# Altium integrated library NSC Switcher.IntLib: 889 symbols (part 9 of 23)
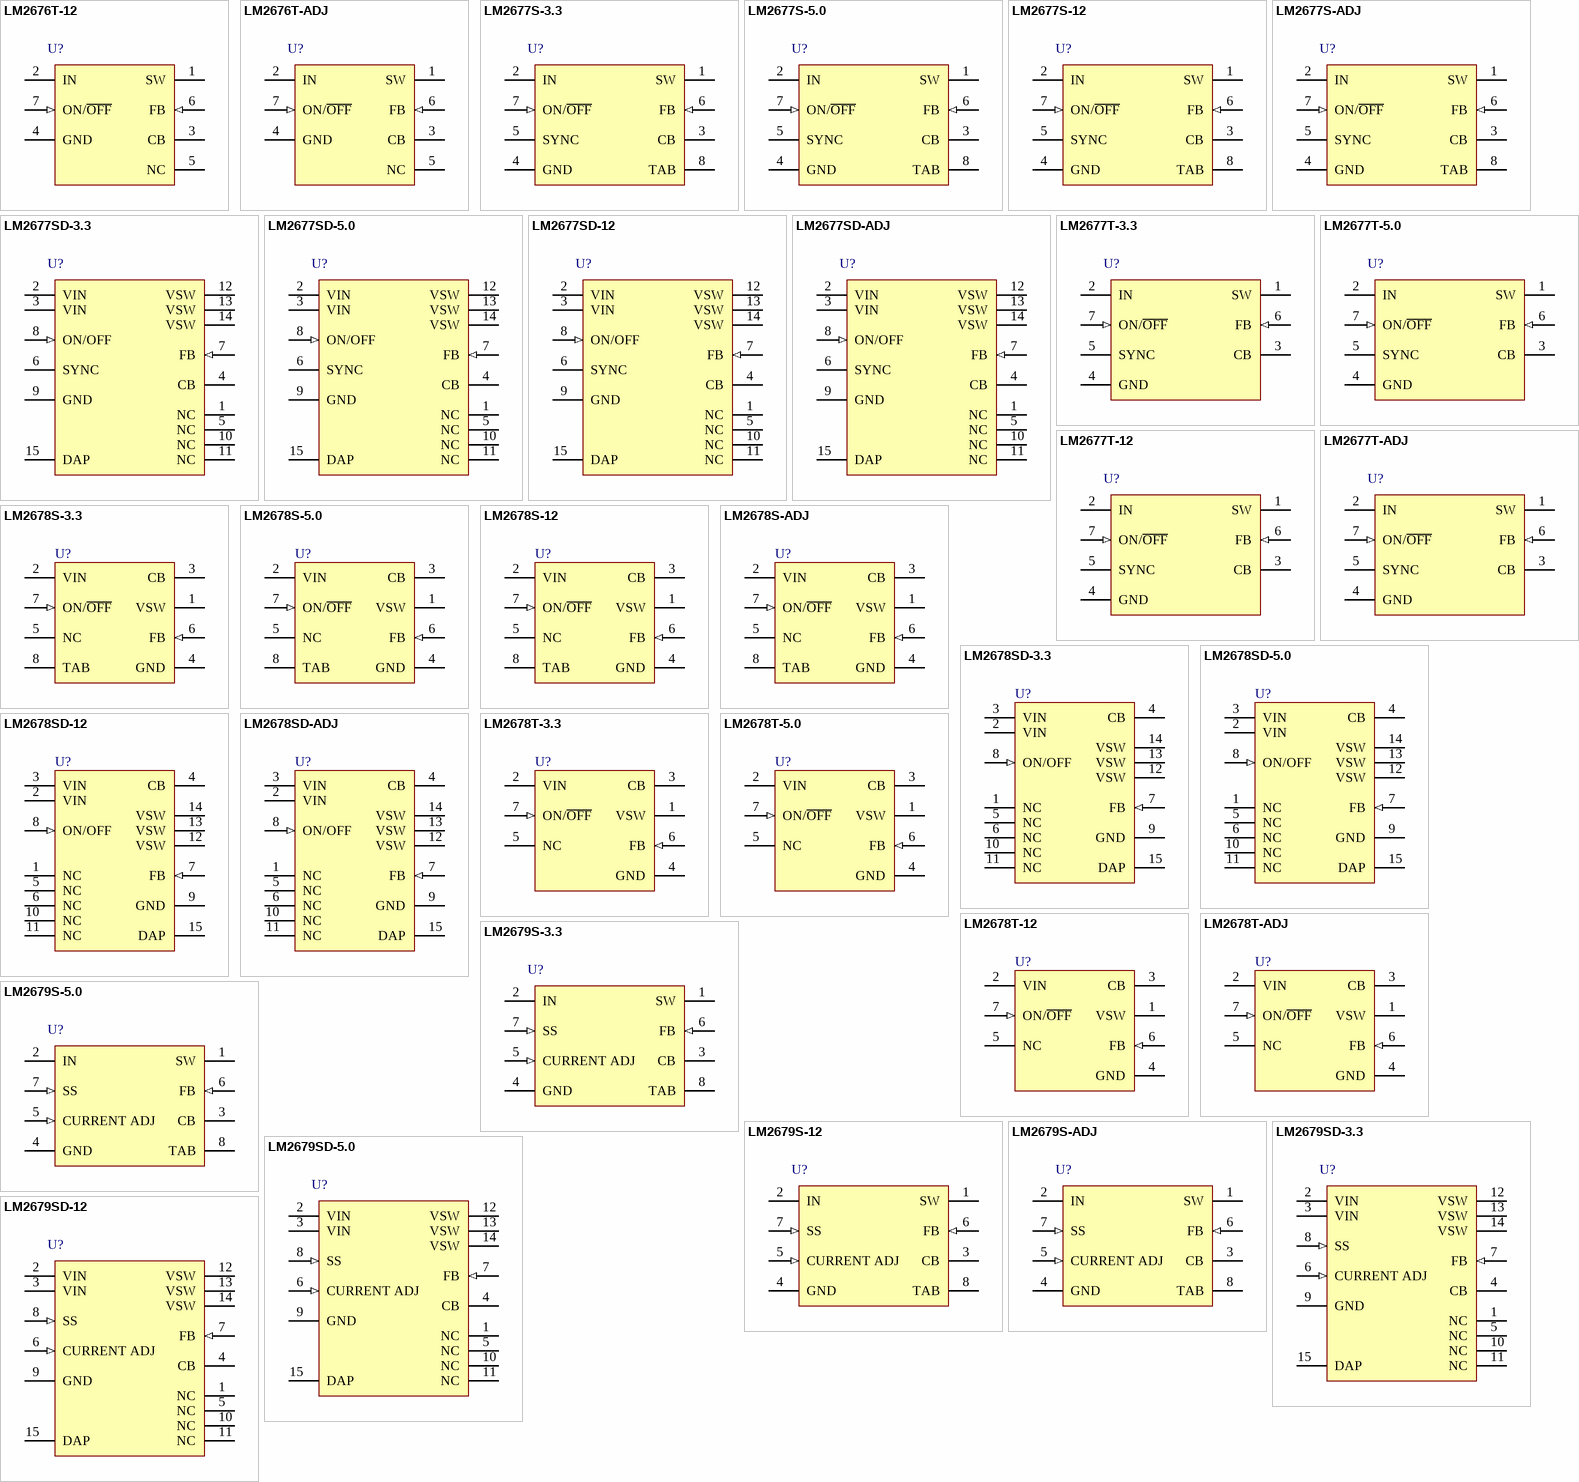
[diagram p35: symbols LM2676T-12 to LM2679SD-12]

## LM2678SD-12
designator U?
SIMPLE SWITCHER; High Efficiency 5A Step-Down Voltage Regulator; PartNumber: LM2678SD-12; Manufacturer: National Semiconductor; PackageTopMarking: NS*UZXYTT*S0003BB; PowerWise: N; Published: 4-Dec-2008; DatasheetVersion: May-2008; PackageVersion: revA, Jul-2003; PackageReference: SRC14A; Publisher: Altium Limited; PackageDescription: LLP, Plastic, Dual, 6 x 5 x 1mm Body, 14 Lead, 0.8mm Pitch, No Pullback; CompType: Switcher; RoHS: Y; PinCount: 14; DigiKeyPartNumber: LM2678SD-12CT-ND; ComponentLink1Description: LM2678 Datasheet; ComponentLink1URL: http://www.national.com/ds/LM/LM2678.pdf; ComponentLink2Description: LM2678 Web Page; ComponentLink2URL: http://www.national.com/pf/LM/LM2678.html; ComponentLink3Description: SRC14A Package Page; ComponentLink3URL: http://www.national.com/packaging/folders/src14a.html
footprint SRC14A (SON, 14-Leads, Body 6x5 mm, Pitch 0.8mm, NSC Recommended)
pins: 1 NC, 2 VIN (power), 3 VIN (power), 4 CB, 5 NC, 6 NC, 7 FB (in), 8 ON/OFF (in), 9 GND (power), 10 NC, 11 NC, 12 VSW (power), 13 VSW (power), 14 VSW (power), 15 DAP (power)

## LM2678SD-ADJ
designator U?
SIMPLE SWITCHER; High Efficiency 5A Step-Down Voltage Regulator; PartNumber: LM2678SD-ADJ; Manufacturer: National Semiconductor; PackageTopMarking: NS*UZXYTT*S0003EB; PowerWise: N; Published: 4-Dec-2008; DatasheetVersion: May-2008; PackageVersion: revA, Jul-2003; PackageReference: SRC14A; Publisher: Altium Limited; PackageDescription: LLP, Plastic, Dual, 6 x 5 x 1mm Body, 14 Lead, 0.8mm Pitch, No Pullback; CompType: Switcher; RoHS: O; PinCount: 14; DigiKeyPartNumber: LM2678SD-ADJCT-ND; ComponentLink1Description: LM2678 Datasheet; ComponentLink1URL: http://www.national.com/ds/LM/LM2678.pdf; ComponentLink2Description: LM2678 Web Page; ComponentLink2URL: http://www.national.com/pf/LM/LM2678.html; ComponentLink3Description: SRC14A Package Page; ComponentLink3URL: http://www.national.com/packaging/folders/src14a.html
footprint SRC14A (SON, 14-Leads, Body 6x5 mm, Pitch 0.8mm, NSC Recommended)
pins: 1 NC, 2 VIN (power), 3 VIN (power), 4 CB, 5 NC, 6 NC, 7 FB (in), 8 ON/OFF (in), 9 GND (power), 10 NC, 11 NC, 12 VSW (power), 13 VSW (power), 14 VSW (power), 15 DAP (power)

## LM2678T-3.3
designator U?
SIMPLE SWITCHER; High Efficiency 5A Step-Down Voltage Regulator; PartNumber: LM2678T-3.3; Manufacturer: National Semiconductor; PackageTopMarking: NSUZXYTT*LM2678*T-3.3; PowerWise: N; Published: 4-Dec-2008; DatasheetVersion: May-2008; PackageVersion: revC, Apr-1999; PackageReference: TA07B; Publisher: Altium Limited; PackageDescription: TO-220, Molded, .400 x .590 x .180in Body, 7 Lead, .050in Pitch, Staggered; CompType: Switcher; RoHS: Y; PinCount: 7; DigiKeyPartNumber: LM2678T-3.3-ND; Code_JEDEC: TO-220-AB; ComponentLink1Description: LM2678 Datasheet; ComponentLink1URL: http://www.national.com/ds/LM/LM2678.pdf; ComponentLink2Description: LM2678 Web Page; ComponentLink2URL: http://www.national.com/pf/LM/LM2678.html; ComponentLink3Description: TA07B Package Page; ComponentLink3URL: http://www.national.com/packaging/folders/ta07b.html
footprint TA07B (TO, Thru-Hole, Vertical, Heatsink Mounted; 7 Bent Staggered Leads; Pitch 1.27 mm)
pins: 1 VSW (power), 2 VIN (power), 3 CB, 4 GND (power), 5 NC, 6 FB (in), 7 ON/~{OFF} (in)

## LM2678T-5.0
designator U?
SIMPLE SWITCHER; High Efficiency 5A Step-Down Voltage Regulator; PartNumber: LM2678T-5.0; Manufacturer: National Semiconductor; PackageTopMarking: NSUZXYTT*LM2678*T-5.0; PowerWise: N; Published: 4-Dec-2008; DatasheetVersion: May-2008; PackageVersion: revC, Apr-1999; PackageReference: TA07B; Publisher: Altium Limited; PackageDescription: TO-220, Molded, .400 x .590 x .180in Body, 7 Lead, .050in Pitch, Staggered; CompType: Switcher; RoHS: O; PinCount: 7; DigiKeyPartNumber: LM2678T-5.0-ND; Code_JEDEC: TO-220-AB; ComponentLink1Description: LM2678 Datasheet; ComponentLink1URL: http://www.national.com/ds/LM/LM2678.pdf; ComponentLink2Description: LM2678 Web Page; ComponentLink2URL: http://www.national.com/pf/LM/LM2678.html; ComponentLink3Description: TA07B Package Page; ComponentLink3URL: http://www.national.com/packaging/folders/ta07b.html
footprint TA07B (TO, Thru-Hole, Vertical, Heatsink Mounted; 7 Bent Staggered Leads; Pitch 1.27 mm)
pins: 1 VSW (power), 2 VIN (power), 3 CB, 4 GND (power), 5 NC, 6 FB (in), 7 ON/~{OFF} (in)

## LM2678T-12
designator U?
SIMPLE SWITCHER; High Efficiency 5A Step-Down Voltage Regulator; PartNumber: LM2678T-12; Manufacturer: National Semiconductor; PackageTopMarking: NSUZXYTT*LM2678*T-12; PowerWise: N; Published: 4-Dec-2008; DatasheetVersion: May-2008; PackageVersion: revC, Apr-1999; PackageReference: TA07B; Publisher: Altium Limited; PackageDescription: TO-220, Molded, .400 x .590 x .180in Body, 7 Lead, .050in Pitch, Staggered; CompType: Switcher; RoHS: Y; PinCount: 7; DigiKeyPartNumber: LM2678T-12-ND; Code_JEDEC: TO-220-AB; ComponentLink1Description: LM2678 Datasheet; ComponentLink1URL: http://www.national.com/ds/LM/LM2678.pdf; ComponentLink2Description: LM2678 Web Page; ComponentLink2URL: http://www.national.com/pf/LM/LM2678.html; ComponentLink3Description: TA07B Package Page; ComponentLink3URL: http://www.national.com/packaging/folders/ta07b.html
footprint TA07B (TO, Thru-Hole, Vertical, Heatsink Mounted; 7 Bent Staggered Leads; Pitch 1.27 mm)
pins: 1 VSW (power), 2 VIN (power), 3 CB, 4 GND (power), 5 NC, 6 FB (in), 7 ON/~{OFF} (in)

## LM2678T-ADJ
designator U?
SIMPLE SWITCHER; High Efficiency 5A Step-Down Voltage Regulator; PartNumber: LM2678T-ADJ; Manufacturer: National Semiconductor; PackageTopMarking: NSUZXYTT*LM2678*T-ADJ; PowerWise: N; Published: 4-Dec-2008; DatasheetVersion: May-2008; PackageVersion: revC, Apr-1999; PackageReference: TA07B; Publisher: Altium Limited; PackageDescription: TO-220, Molded, .400 x .590 x .180in Body, 7 Lead, .050in Pitch, Staggered; CompType: Switcher; RoHS: O; PinCount: 7; DigiKeyPartNumber: LM2678T-ADJ-ND; Code_JEDEC: TO-220-AB; ComponentLink1Description: LM2678 Datasheet; ComponentLink1URL: http://www.national.com/ds/LM/LM2678.pdf; ComponentLink2Description: LM2678 Web Page; ComponentLink2URL: http://www.national.com/pf/LM/LM2678.html; ComponentLink3Description: TA07B Package Page; ComponentLink3URL: http://www.national.com/packaging/folders/ta07b.html
footprint TA07B (TO, Thru-Hole, Vertical, Heatsink Mounted; 7 Bent Staggered Leads; Pitch 1.27 mm)
pins: 1 VSW (power), 2 VIN (power), 3 CB, 4 GND (power), 5 NC, 6 FB (in), 7 ON/~{OFF} (in)

## LM2679S-3.3
designator U?
SIMPLE SWITCHER 5A Step-Down Voltage Regulator with Adjustable Current Limit; PartNumber: LM2679S-3.3; Manufacturer: National Semiconductor; PackageTopMarking: NSUZXYTT*LM2679*S-3.3; PowerWise: N; Published: 4-Dec-2008; DatasheetVersion: Feb-2008; PackageVersion: revE, Jul-2003; PackageReference: TS7B; Publisher: Altium Limited; PackageDescription: TO-263, Molded, .400 x .390 x .180in Body, 7 Lead, .050in Pitch, Surface Mount; CompType: Switcher; RoHS: O; PinCount: 7; DigiKeyPartNumber: LM2679S-3.3-ND; Code_JEDEC: MO-169-AC; ComponentLink1Description: LM2679 Datasheet; ComponentLink1URL: http://www.national.com/ds/LM/LM2679.pdf; ComponentLink2Description: LM2679 Web Page; ComponentLink2URL: http://www.national.com/pf/LM/LM2679.html; ComponentLink3Description: TS7B Package Page; ComponentLink3URL: http://www.national.com/packaging/folders/ts7b.html
footprint TS7B_N (D2-PAK, 8-Leads, Body 8.6x10.2mm, Pitch 1.27mm, Lead Span 14.1mm, IPC Medium Density)
footprint TS7B_L (D2-PAK, 8-Leads, Body 8.6x10.2mm, Pitch 1.27mm, Lead Span 14.1mm, IPC High Density)
footprint TS7B_M (D2-PAK, 8-Leads, Body 8.6x10.2mm, Pitch 1.27mm, Lead Span 14.1mm, IPC Low Density)
footprint TS7B_M (D2-PAK, 8-Leads, Body 8.6x10.2mm, Pitch 1.27mm, Lead Span 14.1mm, IPC Low Density)
pins: 1 SW (power), 2 IN (power), 3 CB, 4 GND (power), 5 CURRENT ADJ (in), 6 FB (in), 7 SS (in), 8 TAB (power)

## LM2679S-5.0
designator U?
SIMPLE SWITCHER 5A Step-Down Voltage Regulator with Adjustable Current Limit; PartNumber: LM2679S-5.0; Manufacturer: National Semiconductor; PackageTopMarking: NSUZXYTT*LM2679*S-5.0; PowerWise: N; Published: 4-Dec-2008; DatasheetVersion: Feb-2008; PackageVersion: revE, Jul-2003; PackageReference: TS7B; Publisher: Altium Limited; PackageDescription: TO-263, Molded, .400 x .390 x .180in Body, 7 Lead, .050in Pitch, Surface Mount; CompType: Switcher; RoHS: O; PinCount: 7; DigiKeyPartNumber: LM2679S-5.0-ND; Code_JEDEC: MO-169-AC; ComponentLink1Description: LM2679 Datasheet; ComponentLink1URL: http://www.national.com/ds/LM/LM2679.pdf; ComponentLink2Description: LM2679 Web Page; ComponentLink2URL: http://www.national.com/pf/LM/LM2679.html; ComponentLink3Description: TS7B Package Page; ComponentLink3URL: http://www.national.com/packaging/folders/ts7b.html
footprint TS7B_N (D2-PAK, 8-Leads, Body 8.6x10.2mm, Pitch 1.27mm, Lead Span 14.1mm, IPC Medium Density)
footprint TS7B_L (D2-PAK, 8-Leads, Body 8.6x10.2mm, Pitch 1.27mm, Lead Span 14.1mm, IPC High Density)
footprint TS7B_M (D2-PAK, 8-Leads, Body 8.6x10.2mm, Pitch 1.27mm, Lead Span 14.1mm, IPC Low Density)
footprint TS7B_M (D2-PAK, 8-Leads, Body 8.6x10.2mm, Pitch 1.27mm, Lead Span 14.1mm, IPC Low Density)
pins: 1 SW (power), 2 IN (power), 3 CB, 4 GND (power), 5 CURRENT ADJ (in), 6 FB (in), 7 SS (in), 8 TAB (power)

## LM2679S-12
designator U?
SIMPLE SWITCHER 5A Step-Down Voltage Regulator with Adjustable Current Limit; PartNumber: LM2679S-12; Manufacturer: National Semiconductor; PackageTopMarking: NSUZXYTT*LM2679*S-12; PowerWise: N; Published: 4-Dec-2008; DatasheetVersion: Feb-2008; PackageVersion: revE, Jul-2003; PackageReference: TS7B; Publisher: Altium Limited; PackageDescription: TO-263, Molded, .400 x .390 x .180in Body, 7 Lead, .050in Pitch, Surface Mount; CompType: Switcher; RoHS: O; PinCount: 7; DigiKeyPartNumber: LM2679S-12-ND; Code_JEDEC: MO-169-AC; ComponentLink1Description: LM2679 Datasheet; ComponentLink1URL: http://www.national.com/ds/LM/LM2679.pdf; ComponentLink2Description: LM2679 Web Page; ComponentLink2URL: http://www.national.com/pf/LM/LM2679.html; ComponentLink3Description: TS7B Package Page; ComponentLink3URL: http://www.national.com/packaging/folders/ts7b.html
footprint TS7B_N (D2-PAK, 8-Leads, Body 8.6x10.2mm, Pitch 1.27mm, Lead Span 14.1mm, IPC Medium Density)
footprint TS7B_L (D2-PAK, 8-Leads, Body 8.6x10.2mm, Pitch 1.27mm, Lead Span 14.1mm, IPC High Density)
footprint TS7B_M (D2-PAK, 8-Leads, Body 8.6x10.2mm, Pitch 1.27mm, Lead Span 14.1mm, IPC Low Density)
footprint TS7B_M (D2-PAK, 8-Leads, Body 8.6x10.2mm, Pitch 1.27mm, Lead Span 14.1mm, IPC Low Density)
pins: 1 SW (power), 2 IN (power), 3 CB, 4 GND (power), 5 CURRENT ADJ (in), 6 FB (in), 7 SS (in), 8 TAB (power)

## LM2679S-ADJ
designator U?
SIMPLE SWITCHER 5A Step-Down Voltage Regulator with Adjustable Current Limit; PartNumber: LM2679S-ADJ; Manufacturer: National Semiconductor; PackageTopMarking: NSUZXYTT*LM2679*S-ADJ; PowerWise: N; Published: 4-Dec-2008; DatasheetVersion: Feb-2008; PackageVersion: revE, Jul-2003; PackageReference: TS7B; Publisher: Altium Limited; PackageDescription: TO-263, Molded, .400 x .390 x .180in Body, 7 Lead, .050in Pitch, Surface Mount; CompType: Switcher; RoHS: O; PinCount: 7; DigiKeyPartNumber: LM2679S-ADJ-ND; Code_JEDEC: MO-169-AC; ComponentLink1Description: LM2679 Datasheet; ComponentLink1URL: http://www.national.com/ds/LM/LM2679.pdf; ComponentLink2Description: LM2679 Web Page; ComponentLink2URL: http://www.national.com/pf/LM/LM2679.html; ComponentLink3Description: TS7B Package Page; ComponentLink3URL: http://www.national.com/packaging/folders/ts7b.html
footprint TS7B_N (D2-PAK, 8-Leads, Body 8.6x10.2mm, Pitch 1.27mm, Lead Span 14.1mm, IPC Medium Density)
footprint TS7B_L (D2-PAK, 8-Leads, Body 8.6x10.2mm, Pitch 1.27mm, Lead Span 14.1mm, IPC High Density)
footprint TS7B_M (D2-PAK, 8-Leads, Body 8.6x10.2mm, Pitch 1.27mm, Lead Span 14.1mm, IPC Low Density)
footprint TS7B_M (D2-PAK, 8-Leads, Body 8.6x10.2mm, Pitch 1.27mm, Lead Span 14.1mm, IPC Low Density)
pins: 1 SW (power), 2 IN (power), 3 CB, 4 GND (power), 5 CURRENT ADJ (in), 6 FB (in), 7 SS (in), 8 TAB (power)

## LM2679SD-3.3
designator U?
SIMPLE SWITCHER 5A Step-Down Voltage Regulator with Adjustable Current Limit; PartNumber: LM2679SD-3.3; Manufacturer: National Semiconductor; PackageTopMarking: NS*UZXYTT*S0003HB; PowerWise: N; Published: 4-Dec-2008; DatasheetVersion: Feb-2008; PackageVersion: revA, Jul-2003; PackageReference: SRC14A; Publisher: Altium Limited; PackageDescription: LLP, Plastic, Dual, 6 x 5 x 1mm Body, 14 Lead, 0.8mm Pitch, No Pullback; CompType: Switcher; RoHS: Y; PinCount: 14; DigiKeyPartNumber: LM2679SD-3.3CT-ND; ComponentLink1Description: LM2679 Datasheet; ComponentLink1URL: http://www.national.com/ds/LM/LM2679.pdf; ComponentLink2Description: LM2679 Web Page; ComponentLink2URL: http://www.national.com/pf/LM/LM2679.html; ComponentLink3Description: SRC14A Package Page; ComponentLink3URL: http://www.national.com/packaging/folders/src14a.html
footprint SRC14A (SON, 14-Leads, Body 6x5 mm, Pitch 0.8mm, NSC Recommended)
pins: 1 NC, 2 VIN (power), 3 VIN (power), 4 CB, 5 NC, 6 CURRENT ADJ (in), 7 FB (in), 8 SS (in), 9 GND (power), 10 NC, 11 NC, 12 VSW (power), 13 VSW (power), 14 VSW (power), 15 DAP

## LM2679SD-5.0
designator U?
SIMPLE SWITCHER 5A Step-Down Voltage Regulator with Adjustable Current Limit; PartNumber: LM2679SD-5.0; Manufacturer: National Semiconductor; PackageTopMarking: NS*UZXYTT*S0003JB; PowerWise: N; Published: 4-Dec-2008; DatasheetVersion: Feb-2008; PackageVersion: revA, Jul-2003; PackageReference: SRC14A; Publisher: Altium Limited; PackageDescription: LLP, Plastic, Dual, 6 x 5 x 1mm Body, 14 Lead, 0.8mm Pitch, No Pullback; CompType: Switcher; RoHS: Y; PinCount: 14; DigiKeyPartNumber: LM2679SD-5.0CT-ND; ComponentLink1Description: LM2679 Datasheet; ComponentLink1URL: http://www.national.com/ds/LM/LM2679.pdf; ComponentLink2Description: LM2679 Web Page; ComponentLink2URL: http://www.national.com/pf/LM/LM2679.html; ComponentLink3Description: SRC14A Package Page; ComponentLink3URL: http://www.national.com/packaging/folders/src14a.html
footprint SRC14A (SON, 14-Leads, Body 6x5 mm, Pitch 0.8mm, NSC Recommended)
pins: 1 NC, 2 VIN (power), 3 VIN (power), 4 CB, 5 NC, 6 CURRENT ADJ (in), 7 FB (in), 8 SS (in), 9 GND (power), 10 NC, 11 NC, 12 VSW (power), 13 VSW (power), 14 VSW (power), 15 DAP

## LM2679SD-12
designator U?
SIMPLE SWITCHER 5A Step-Down Voltage Regulator with Adjustable Current Limit; PartNumber: LM2679SD-12; Manufacturer: National Semiconductor; PackageTopMarking: NS*UZXYTT*S0003FB; PowerWise: N; Published: 4-Dec-2008; DatasheetVersion: Feb-2008; PackageVersion: revA, Jul-2003; PackageReference: SRC14A; Publisher: Altium Limited; PackageDescription: LLP, Plastic, Dual, 6 x 5 x 1mm Body, 14 Lead, 0.8mm Pitch, No Pullback; CompType: Switcher; RoHS: N; PinCount: 14; DigiKeyPartNumber: LM2679SD-12CT-ND; ComponentLink1Description: LM2679 Datasheet; ComponentLink1URL: http://www.national.com/ds/LM/LM2679.pdf; ComponentLink2Description: LM2679 Web Page; ComponentLink2URL: http://www.national.com/pf/LM/LM2679.html; ComponentLink3Description: SRC14A Package Page; ComponentLink3URL: http://www.national.com/packaging/folders/src14a.html
footprint SRC14A (SON, 14-Leads, Body 6x5 mm, Pitch 0.8mm, NSC Recommended)
pins: 1 NC, 2 VIN (power), 3 VIN (power), 4 CB, 5 NC, 6 CURRENT ADJ (in), 7 FB (in), 8 SS (in), 9 GND (power), 10 NC, 11 NC, 12 VSW (power), 13 VSW (power), 14 VSW (power), 15 DAP

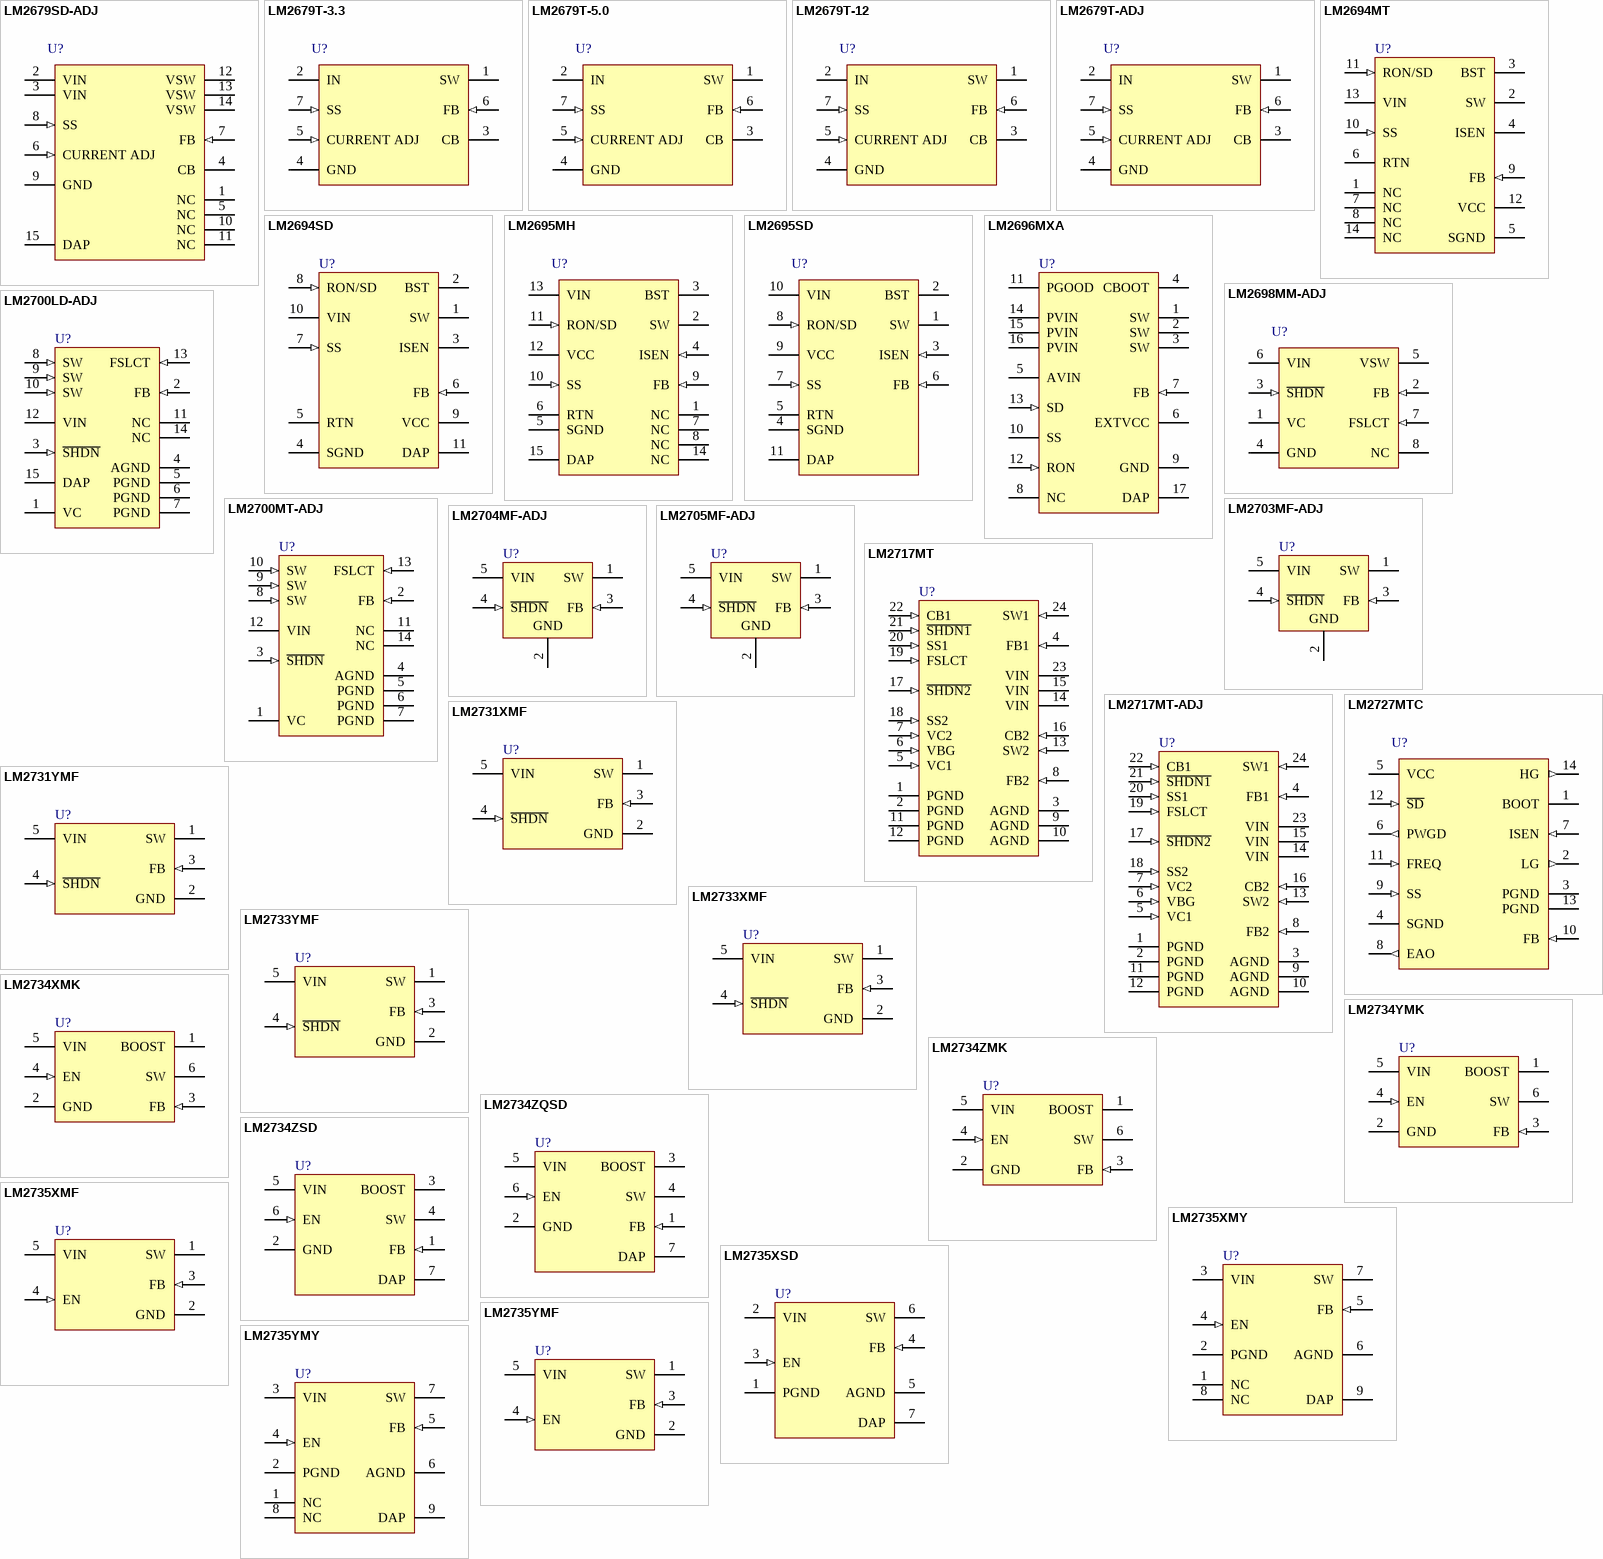
[diagram p10: symbols LM2679SD-ADJ to LM2735YMY]

## LM2679SD-ADJ
designator U?
SIMPLE SWITCHER 5A Step-Down Voltage Regulator with Adjustable Current Limit; PartNumber: LM2679SD-ADJ; Manufacturer: National Semiconductor; PackageTopMarking: NS*UZXYTT*S0003KB; PowerWise: N; Published: 4-Dec-2008; DatasheetVersion: Feb-2008; PackageVersion: revA, Jul-2003; PackageReference: SRC14A; Publisher: Altium Limited; PackageDescription: LLP, Plastic, Dual, 6 x 5 x 1mm Body, 14 Lead, 0.8mm Pitch, No Pullback; CompType: Switcher; RoHS: O; PinCount: 14; DigiKeyPartNumber: LM2679SD-ADJCT-ND; ComponentLink1Description: LM2679 Datasheet; ComponentLink1URL: http://www.national.com/ds/LM/LM2679.pdf; ComponentLink2Description: LM2679 Web Page; ComponentLink2URL: http://www.national.com/pf/LM/LM2679.html; ComponentLink3Description: SRC14A Package Page; ComponentLink3URL: http://www.national.com/packaging/folders/src14a.html
footprint SRC14A (SON, 14-Leads, Body 6x5 mm, Pitch 0.8mm, NSC Recommended)
pins: 1 NC, 2 VIN (power), 3 VIN (power), 4 CB, 5 NC, 6 CURRENT ADJ (in), 7 FB (in), 8 SS (in), 9 GND (power), 10 NC, 11 NC, 12 VSW (power), 13 VSW (power), 14 VSW (power), 15 DAP

## LM2679T-3.3
designator U?
SIMPLE SWITCHER 5A Step-Down Voltage Regulator with Adjustable Current Limit; PartNumber: LM2679T-3.3; Manufacturer: National Semiconductor; PackageTopMarking: NSUZXYTT*LM2679*T-3.3; PowerWise: N; Published: 4-Dec-2008; DatasheetVersion: Feb-2008; PackageVersion: revC, Apr-1999; PackageReference: TA07B; Publisher: Altium Limited; PackageDescription: TO-220, Molded, .400 x .590 x .180in Body, 7 Lead, .050in Pitch, Staggered; CompType: Switcher; RoHS: O; PinCount: 7; DigiKeyPartNumber: LM2679T-3.3-ND; Code_JEDEC: TO-220-AB; ComponentLink1Description: LM2679 Datasheet; ComponentLink1URL: http://www.national.com/ds/LM/LM2679.pdf; ComponentLink2Description: LM2679 Web Page; ComponentLink2URL: http://www.national.com/pf/LM/LM2679.html; ComponentLink3Description: TA07B Package Page; ComponentLink3URL: http://www.national.com/packaging/folders/ta07b.html
footprint TA07B (TO, Thru-Hole, Vertical, Heatsink Mounted; 7 Bent Staggered Leads; Pitch 1.27 mm)
pins: 1 SW (power), 2 IN (power), 3 CB, 4 GND (power), 5 CURRENT ADJ (in), 6 FB (in), 7 SS (in)

## LM2679T-5.0
designator U?
SIMPLE SWITCHER 5A Step-Down Voltage Regulator with Adjustable Current Limit; PartNumber: LM2679T-5.0; Manufacturer: National Semiconductor; PackageTopMarking: NSUZXYTT*LM2679*T-5.0; PowerWise: N; Published: 4-Dec-2008; DatasheetVersion: Feb-2008; PackageVersion: revC, Apr-1999; PackageReference: TA07B; Publisher: Altium Limited; PackageDescription: TO-220, Molded, .400 x .590 x .180in Body, 7 Lead, .050in Pitch, Staggered; CompType: Switcher; RoHS: O; PinCount: 7; DigiKeyPartNumber: LM2679T-5.0-ND; Code_JEDEC: TO-220-AB; ComponentLink1Description: LM2679 Datasheet; ComponentLink1URL: http://www.national.com/ds/LM/LM2679.pdf; ComponentLink2Description: LM2679 Web Page; ComponentLink2URL: http://www.national.com/pf/LM/LM2679.html; ComponentLink3Description: TA07B Package Page; ComponentLink3URL: http://www.national.com/packaging/folders/ta07b.html
footprint TA07B (TO, Thru-Hole, Vertical, Heatsink Mounted; 7 Bent Staggered Leads; Pitch 1.27 mm)
pins: 1 SW (power), 2 IN (power), 3 CB, 4 GND (power), 5 CURRENT ADJ (in), 6 FB (in), 7 SS (in)

## LM2679T-12
designator U?
SIMPLE SWITCHER 5A Step-Down Voltage Regulator with Adjustable Current Limit; PartNumber: LM2679T-12; Manufacturer: National Semiconductor; PackageTopMarking: NSUZXYTT*LM2679*T-12; PowerWise: N; Published: 4-Dec-2008; DatasheetVersion: Feb-2008; PackageVersion: revC, Apr-1999; PackageReference: TA07B; Publisher: Altium Limited; PackageDescription: TO-220, Molded, .400 x .590 x .180in Body, 7 Lead, .050in Pitch, Staggered; CompType: Switcher; RoHS: Y; PinCount: 7; DigiKeyPartNumber: LM2679T-12-ND; Code_JEDEC: TO-220-AB; ComponentLink1Description: LM2679 Datasheet; ComponentLink1URL: http://www.national.com/ds/LM/LM2679.pdf; ComponentLink2Description: LM2679 Web Page; ComponentLink2URL: http://www.national.com/pf/LM/LM2679.html; ComponentLink3Description: TA07B Package Page; ComponentLink3URL: http://www.national.com/packaging/folders/ta07b.html
footprint TA07B (TO, Thru-Hole, Vertical, Heatsink Mounted; 7 Bent Staggered Leads; Pitch 1.27 mm)
pins: 1 SW (power), 2 IN (power), 3 CB, 4 GND (power), 5 CURRENT ADJ (in), 6 FB (in), 7 SS (in)

## LM2679T-ADJ
designator U?
SIMPLE SWITCHER 5A Step-Down Voltage Regulator with Adjustable Current Limit; PartNumber: LM2679T-ADJ; Manufacturer: National Semiconductor; PackageTopMarking: NSUZXYTT*LM2679*T-ADJ; PowerWise: N; Published: 4-Dec-2008; DatasheetVersion: Feb-2008; PackageVersion: revC, Apr-1999; PackageReference: TA07B; Publisher: Altium Limited; PackageDescription: TO-220, Molded, .400 x .590 x .180in Body, 7 Lead, .050in Pitch, Staggered; CompType: Switcher; RoHS: O; PinCount: 7; DigiKeyPartNumber: LM2679T-ADJ-ND; Code_JEDEC: TO-220-AB; ComponentLink1Description: LM2679 Datasheet; ComponentLink1URL: http://www.national.com/ds/LM/LM2679.pdf; ComponentLink2Description: LM2679 Web Page; ComponentLink2URL: http://www.national.com/pf/LM/LM2679.html; ComponentLink3Description: TA07B Package Page; ComponentLink3URL: http://www.national.com/packaging/folders/ta07b.html
footprint TA07B (TO, Thru-Hole, Vertical, Heatsink Mounted; 7 Bent Staggered Leads; Pitch 1.27 mm)
pins: 1 SW (power), 2 IN (power), 3 CB, 4 GND (power), 5 CURRENT ADJ (in), 6 FB (in), 7 SS (in)

## LM2694MT
designator U?
30V, 600 mA Step Down Switching Regulator; PartNumber: LM2694MT; Manufacturer: National Semiconductor; CompType: Switcher; PackageTopMarking: NSUZXYTT*L2694*MT; PowerWise: N; Published: 4-Dec-2008; DatasheetVersion: May-2006; PackageVersion: revD, Jun-2003; PackageReference: MTC14; Publisher: Altium Limited; PackageDescription: Molded TSSOP, JEDEC, 5 x 4.4 x 0.9mm Body, 14 Lead, 0.65mm Pitch; RoHS: Y; PinCount: 14; DigiKeyPartNumber: LM2694MT-ND; Code_JEDEC: MO-153-AB-1; ComponentLink1Description: LM2694 Datasheet; ComponentLink1URL: http://www.national.com/ds/LM/LM2694.pdf; ComponentLink2Description: LM2694 Web Page; ComponentLink2URL: http://www.national.com/pf/LM/LM2694.html; ComponentLink3Description: MTC14 Package Page; ComponentLink3URL: http://www.national.com/packaging/folders/mtc14.html
footprint MTC14_N (TSOP, 14-Leads, Body 5x4.4mm, Pitch 0.65mm, IPC Medium Density)
footprint MTC14_L (TSOP, 14-Leads, Body 5x4.4mm, Pitch 0.65mm, IPC High Density)
footprint MTC14_M (TSOP, 14-Leads, Body 5x4.4mm, Pitch 0.65mm, IPC Low Density)
pins: 1 NC, 2 SW (power), 3 BST, 4 ISEN, 5 SGND (power), 6 RTN (power), 7 NC, 8 NC, 9 FB (in), 10 SS (in), 11 RON/SD (in), 12 VCC (power), 13 VIN (power), 14 NC

## LM2694SD
designator U?
30V, 600 mA Step Down Switching Regulator; PartNumber: LM2694SD; Manufacturer: National Semiconductor; CompType: Switcher; PackageTopMarking: ZXYTT*L2694; PowerWise: N; Published: 4-Dec-2008; DatasheetVersion: May-2006; PackageVersion: revA, Oct-2003; PackageReference: SDA10A; Publisher: Altium Limited; PackageDescription: LLP, Plastic, Dual, 3 x 3 x 0.8mm Body, 10 Lead, 0.5mm Pitch, No Pullback; RoHS: Y; PinCount: 10; DigiKeyPartNumber: LM2694SDCT-ND; ComponentLink1Description: LM2694 Datasheet; ComponentLink1URL: http://www.national.com/ds/LM/LM2694.pdf; ComponentLink2Description: LM2694 Web Page; ComponentLink2URL: http://www.national.com/pf/LM/LM2694.html; ComponentLink3Description: SDA10A Package Page; ComponentLink3URL: http://www.national.com/packaging/folders/sda10a.html
footprint SDA10A (SON, 10-Leads, Body 3x3 mm, Pitch 0.5mm, NSC Recommended)
pins: 1 SW (power), 2 BST, 3 ISEN, 4 SGND (power), 5 RTN (power), 6 FB (in), 7 SS (in), 8 RON/SD (in), 9 VCC (power), 10 VIN (power), 11 DAP (power)

## LM2695MH
designator U?
High Voltage (30V, 1.25A) Step Down Switching Regulator; PartNumber: LM2695MH; Manufacturer: National Semiconductor; CompType: Switcher; PackageTopMarking: NSUZXYTT*L2695*MH; PowerWise: N; Published: 4-Dec-2008; DatasheetVersion: Jan-2006; PackageVersion: revA, Feb-2003; PackageReference: MXA14A; Publisher: Altium Limited; PackageDescription: Molded TSSOP, JEDEC, Exposed Pad, 5.0 x 4.4 x 0.9mm Body, 14 Lead, 0.65mm Pitch; RoHS: Y; PinCount: 14; DigiKeyPartNumber: LM2695MH-ND; Code_JEDEC: MO-153-ABT-1; ComponentLink1Description: LM2695 Datasheet; ComponentLink1URL: http://www.national.com/ds/LM/LM2695.pdf; ComponentLink2Description: LM2695 Web Page; ComponentLink2URL: http://www.national.com/pf/LM/LM2695.html; ComponentLink3Description: MXA14A Package Page; ComponentLink3URL: http://www.national.com/packaging/folders/mxa14a.html
footprint MXA14A_N (TSOP, 14-Leads, Body 5x4.4mm, Pitch 0.65mm, Exposed Pad, IPC Medium Density)
footprint MXA14A_L (TSOP, 14-Leads, Body 5x4.4mm, Pitch 0.65mm, Exposed Pad, IPC High Density)
footprint MXA14A_M (TSOP, 14-Leads, Body 5x4.4mm, Pitch 0.65mm, Exposed Pad, IPC Low Density)
pins: 1 NC, 2 SW (power), 3 BST, 4 ISEN (in), 5 SGND (power), 6 RTN (power), 7 NC, 8 NC, 9 FB (in), 10 SS (in), 11 RON/SD (in), 12 VCC (power), 13 VIN (power), 14 NC, 15 DAP (power)

## LM2695SD
designator U?
High Voltage (30V, 1.25A) Step Down Switching Regulator; PartNumber: LM2695SD; Manufacturer: National Semiconductor; CompType: Switcher; PackageTopMarking: NS*UZXYTT*L2695SD; PowerWise: N; Published: 4-Dec-2008; DatasheetVersion: Jan-2006; PackageVersion: revA, May-2003; PackageReference: SDC10A; Publisher: Altium Limited; PackageDescription: LLP, Plastic, Dual, 4 x 4 x 0.8mm Body, 10 Lead, 0.8mm Pitch, No Pullback; RoHS: Y; PinCount: 10; DigiKeyPartNumber: LM2695SDCT-ND; ComponentLink1Description: LM2695 Datasheet; ComponentLink1URL: http://www.national.com/ds/LM/LM2695.pdf; ComponentLink2Description: LM2695 Web Page; ComponentLink2URL: http://www.national.com/pf/LM/LM2695.html; ComponentLink3Description: SDC10A Package Page; ComponentLink3URL: http://www.national.com/packaging/folders/sdc10a.html
footprint SDC10A (SON, 10-Leads, Body 4x4 mm, Pitch 0.8mm, NSC Recommended)
pins: 1 SW (power), 2 BST, 3 ISEN (in), 4 SGND (power), 5 RTN (power), 6 FB (in), 7 SS (in), 8 RON/SD (in), 9 VCC (power), 10 VIN (power), 11 DAP (power)

## LM2696MXA
designator U?
3A, Constant On Time Buck Regulator; PartNumber: LM2696MXA; Manufacturer: National Semiconductor; CompType: Switcher; PackageTopMarking: NSZXYTT*2696*MXA; PowerWise: N; Published: 4-Dec-2008; DatasheetVersion: Oct-2005; PackageVersion: revA, Apr-2003; PackageReference: MXA16A; Publisher: Altium Limited; PackageDescription: Molded TSSOP, Jedec, Exposed Pad, 5.0 x 4.4 x 0.9mm Body,16 Lead, 0.65mm Pitch; RoHS: O; PinCount: 16; DigiKeyPartNumber: LM2696MXA-ND; Code_JEDEC: MO-153-ABT; ComponentLink1Description: LM2696 Datasheet; ComponentLink1URL: http://www.national.com/ds/LM/LM2696.pdf; ComponentLink2Description: LM2696 Web Page; ComponentLink2URL: http://www.national.com/pf/LM/LM2696.html; ComponentLink3Description: MXA16A Package Page; ComponentLink3URL: http://www.national.com/packaging/folders/mxa16a.html
footprint MXA16A_N (TSOP, 16-Leads, Body 5x4.4mm, Pitch 0.65mm, Exposed Pad, IPC Medium Density)
footprint MXA16A_L (TSOP, 16-Leads, Body 5x4.4mm, Pitch 0.65mm, Exposed Pad, IPC High Density)
footprint MXA16A_M (TSOP, 16-Leads, Body 5x4.4mm, Pitch 0.65mm, Exposed Pad, IPC Low Density)
pins: 1 SW (power), 2 SW (power), 3 SW (power), 4 CBOOT, 5 AVIN (power), 6 EXTVCC, 7 FB (in), 8 NC, 9 GND (power), 10 SS, 11 PGOOD (oc), 12 RON (in), 13 SD (in), 14 PVIN (power), 15 PVIN (power), 16 PVIN (power), 17 DAP (power)

## LM2698MM-ADJ
designator U?
SIMPLE SWITCHER; 1.35A Boost Regulator; PartNumber: LM2698MM-ADJ; Manufacturer: National Semiconductor; PackageTopMarking: ZXTT*S22B; PowerWise: N; Published: 4-Dec-2008; DatasheetVersion: Mar-2005; PackageVersion: revF, Apr-2008; PackageReference: MUA08A; Publisher: Altium Limited; PackageDescription: MINI SOIC, .118 x .118 x .034in, 8 Lead, .0256in Pitch; CompType: Switcher; RoHS: Y; PinCount: 8; DigiKeyPartNumber: LM2698MM-ADJCT-ND; Code_JEDEC: MO-187-AA; ComponentLink1Description: LM2698 Datasheet; ComponentLink1URL: http://www.national.com/ds/LM/LM2698.pdf; ComponentLink2Description: LM2698 Web Page; ComponentLink2URL: http://www.national.com/pf/LM/LM2698.html; ComponentLink3Description: MUA08A Package Page; ComponentLink3URL: http://www.national.com/packaging/folders/mua08a.html
footprint MUA08A_N (TSOP, 8-Leads, Body 3x3mm, Pitch 0.65mm, IPC Medium Density)
footprint MUA08A_L (TSOP, 8-Leads, Body 3x3mm, Pitch 0.65mm, IPC High Density)
footprint MUA08A_M (TSOP, 8-Leads, Body 3x3mm, Pitch 0.65mm, IPC Low Density)
pins: 1 VC, 2 FB (in), 3 ~{SHDN} (in), 4 GND (power), 5 VSW (power), 6 VIN (power), 7 FSLCT (in), 8 NC

## LM2700LD-ADJ
designator U?
600kHz/1.25MHz, 2.5A, Step-up PWM DC/DC Converter; PartNumber: LM2700LD-ADJ; Manufacturer: National Semiconductor; CompType: Switcher; PackageTopMarking: NS*UZXYTT*S00001B; PowerWise: N; Published: 4-Dec-2008; DatasheetVersion: May-2004; PackageVersion: revA, Aug-2000; PackageReference: LDA14A; Publisher: Altium Limited; PackageDescription: LLP, Plastic, Dual, 4 x 4 x 0.75mm Body, 14 Lead, 0.5mm Pitch; RoHS: Y; PinCount: 14; DigiKeyPartNumber: LM2700LD-ADJCT-ND; ComponentLink1Description: LM2700 Datasheet; ComponentLink1URL: http://www.national.com/ds/LM/LM2700.pdf; ComponentLink2Description: LM2700 Web Page; ComponentLink2URL: http://www.national.com/pf/LM/LM2700.html; ComponentLink3Description: LDA14A Package Drawing; ComponentLink3URL: http://www.national.com/packaging/folders/lda14a.html
footprint LDA14A (PSON, 14-Leads, Body 4x4mm, Pitch 0.5mm, NSC Recommended)
pins: 1 VC, 2 FB (in), 3 ~{SHDN} (in), 4 AGND (power), 5 PGND (power), 6 PGND (power), 7 PGND (power), 8 SW (in), 9 SW (in), 10 SW (in), 11 NC, 12 VIN (power), 13 FSLCT (in), 14 NC, 15 DAP (power)

## LM2700MT-ADJ
designator U?
600kHz/1.25MHz, 2.5A, Step-up PWM DC/DC Converter; PartNumber: LM2700MT-ADJ; Manufacturer: National Semiconductor; CompType: Switcher; PackageTopMarking: NSZXYTT*2700MT*-ADJ; PowerWise: N; Published: 4-Dec-2008; DatasheetVersion: May-2004; PackageVersion: revD, Jun-2003; PackageReference: MTC14; Publisher: Altium Limited; PackageDescription: Molded TSSOP, JEDEC, 5 x 4.4 x 0.9mm Body, 14 Lead, 0.65mm Pitch; RoHS: O; PinCount: 14; DigiKeyPartNumber: LM2700MT-ADJ-ND; Code_JEDEC: MO-153-AB-1; ComponentLink1Description: LM2700 Datasheet; ComponentLink1URL: http://www.national.com/ds/LM/LM2700.pdf; ComponentLink2Description: LM2700 Web Page; ComponentLink2URL: http://www.national.com/pf/LM/LM2700.html; ComponentLink3Description: MTC14 Package Drawing; ComponentLink3URL: http://www.national.com/packaging/folders/mtc14.html
footprint MTC14_N (TSOP, 14-Leads, Body 5x4.4mm, Pitch 0.65mm, IPC Medium Density)
footprint MTC14_L (TSOP, 14-Leads, Body 5x4.4mm, Pitch 0.65mm, IPC High Density)
footprint MTC14_M (TSOP, 14-Leads, Body 5x4.4mm, Pitch 0.65mm, IPC Low Density)
pins: 1 VC (power), 2 FB (in), 3 ~{SHDN} (in), 4 AGND (power), 5 PGND (power), 6 PGND (power), 7 PGND (power), 8 SW (in), 9 SW (in), 10 SW (in), 11 NC, 12 VIN (power), 13 FSLCT (in), 14 NC

## LM2703MF-ADJ
designator U?
Micropower Step-Up DC/DC Converter with 350mA Peak Current Limit; PartNumber: LM2703MF-ADJ; Manufacturer: National Semiconductor; CompType: Switcher; PackageTopMarking: S48B*XTT; Published: 4-Dec-2008; DatasheetVersion: Jun-2006; PackageVersion: revD, Aug-2008; PackageReference: MF05A; Publisher: Altium Limited; PackageDescription: Molded SOT-23, .115 x .063 x .040 in Body, 5 Lead, .0375 in Pitch; RoHS: O; PinCount: 5; DigiKeyPartNumber: LM2703MF-ADJCT-ND; Code_IPC: SOT23-5; ComponentLink1Description: LM2703 Datasheet; ComponentLink1URL: http://www.national.com/ds/LM/LM2703.pdf; ComponentLink2Description: LM2703 Web Page; ComponentLink2URL: http://www.national.com/pf/LM/LM2703.html; ComponentLink3Description: MF05A Package Drawing; ComponentLink3URL: http://www.national.com/packaging/folders/mf05a.html
footprint MF05A_N (SOT23, 5-Leads, Body 2.9x1.6mm, Pitch 0.95mm, Lead Span 2.8mm, IPC Medium Density)
footprint MF05A_L (SOT23, 5-Leads, Body 2.9x1.6mm, Pitch 0.95mm, Lead Span 2.8mm, IPC High Density)
footprint MF05A_M (SOT23, 5-Leads, Body 2.9x1.6mm, Pitch 0.95mm, Lead Span 2.8mm, IPC Low Density)
pins: 1 SW (power), 2 GND (power), 3 FB (in), 4 ~{SHDN} (in), 5 VIN (power)

## LM2704MF-ADJ
designator U?
Micropower Step-up DC/DC Converter with 550mA Peak Current Limit; PartNumber: LM2704MF-ADJ; Manufacturer: National Semiconductor; CompType: Switcher; PackageTopMarking: S28B*XTT; Published: 4-Dec-2008; DatasheetVersion: Apr-2003; PackageVersion: revD, Aug-2008; PackageReference: MF05A; Publisher: Altium Limited; PackageDescription: Molded SOT-23, .115 x .063 x .040 in Body, 5 Lead, .0375 in Pitch; RoHS: O; PinCount: 5; DigiKeyPartNumber: LM2704MF-ADJCT-ND; Code_IPC: SOT23-5; ComponentLink1Description: LM2704 Datasheet; ComponentLink1URL: http://www.national.com/ds/LM/LM2704.pdf; ComponentLink2Description: LM2704 Web Page; ComponentLink2URL: http://www.national.com/pf/LM/LM2704.html; ComponentLink3Description: MF05A Package Drawing; ComponentLink3URL: http://www.national.com/packaging/folders/mf05a.html
footprint MF05A_N (SOT23, 5-Leads, Body 2.9x1.6mm, Pitch 0.95mm, Lead Span 2.8mm, IPC Medium Density)
footprint MF05A_L (SOT23, 5-Leads, Body 2.9x1.6mm, Pitch 0.95mm, Lead Span 2.8mm, IPC High Density)
footprint MF05A_M (SOT23, 5-Leads, Body 2.9x1.6mm, Pitch 0.95mm, Lead Span 2.8mm, IPC Low Density)
pins: 1 SW (power), 2 GND (power), 3 FB (in), 4 ~{SHDN} (in), 5 VIN (power)

## LM2705MF-ADJ
designator U?
Micropower Step-up DC/DC Converter with 150mA Peak Current Limit; PartNumber: LM2705MF-ADJ; Manufacturer: National Semiconductor; CompType: Switcher; PackageTopMarking: S59B*XTT; Published: 4-Dec-2008; DatasheetVersion: Aug-2007; PackageVersion: revD, Aug-2008; PackageReference: MF05A; Publisher: Altium Limited; PackageDescription: Molded SOT-23, .115 x .063 x .040 in Body, 5 Lead, .0375 in Pitch; RoHS: O; PinCount: 5; DigiKeyPartNumber: LM2705MF-ADJCT-ND; Code_IPC: SOT23-5; ComponentLink1Description: LM2705 Datasheet; ComponentLink1URL: http://www.national.com/ds/LM/LM2705.pdf; ComponentLink2Description: LM2705 Web Page; ComponentLink2URL: http://www.national.com/pf/LM/LM2705.html; ComponentLink3Description: MF05A Package Drawing; ComponentLink3URL: http://www.national.com/packaging/folders/mf05a.html
footprint MF05A_N (SOT23, 5-Leads, Body 2.9x1.6mm, Pitch 0.95mm, Lead Span 2.8mm, IPC Medium Density)
footprint MF05A_L (SOT23, 5-Leads, Body 2.9x1.6mm, Pitch 0.95mm, Lead Span 2.8mm, IPC High Density)
footprint MF05A_M (SOT23, 5-Leads, Body 2.9x1.6mm, Pitch 0.95mm, Lead Span 2.8mm, IPC Low Density)
pins: 1 SW (power), 2 GND (power), 3 FB (in), 4 ~{SHDN} (in), 5 VIN (power)

## LM2717MT
designator U?
Dual Step-Down DC/DC Converter; PartNumber: LM2717MT; Manufacturer: National Semiconductor; CompType: Switcher; PackageTopMarking: NSUZXYTT*LM2717MT; Published: 4-Dec-2008; DatasheetVersion: Mar-2008; PackageVersion: revE, Mar-2003; PackageReference: MTC24; Publisher: Altium Limited; PackageDescription: Molded TSSOP, Jedec, 7.8 x 4.4 x 0.9mm Body, 24 Lead, 0.65mm Pitch; RoHS: Y; PinCount: 24; DigiKeyPartNumber: LM2717MT-ND; Code_JEDEC: MO-153-AD; ComponentLink1Description: LM2717 Datasheet; ComponentLink1URL: http://www.national.com/ds/LM/LM2717.pdf; ComponentLink2Description: LM2717 Web Page; ComponentLink2URL: http://www.national.com/pf/LM/LM2717.html; ComponentLink3Description: MTC24 Package Drawing; ComponentLink3URL: http://www.national.com/packaging/folders/mtc24.html
footprint MTC24_N (TSOP, 24-Leads, Body 7.8x4.4mm, Pitch 0.65mm, IPC Medium Density)
footprint MTC24_L (TSOP, 24-Leads, Body 7.8x4.4mm, Pitch 0.65mm, IPC High Density)
footprint MTC24_M (TSOP, 24-Leads, Body 7.8x4.4mm, Pitch 0.65mm, IPC Low Density)
pins: 1 PGND (power) "Power ground. AGND and PGND pins must be connected together directly at the part.", 2 PGND (power) "Power ground. AGND and PGND pins must be connected together directly at the part.", 3 AGND (power) "Analog ground. AGND and PGND pins must be connected together directly at the part.", 4 FB1 (in) "Fixed buck output voltage feedback input.", 5 VC1 (in) "Fixed buck compensation network connection. Connected to the output of the voltage error amplifier.", 6 VBG (in) "Bandgap connection.", 7 VC2 (in) "Adjustable buck compensation network connection.", 8 FB2 (in) "Adjustable buck output voltage feedback input.", 9 AGND (power) "Analog ground. AGND and PGND pins must be connected together directly at the part.", 10 AGND (power) "Analog ground. AGND and PGND pins must be connected together directly at the part.", 11 PGND (power) "Power ground. AGND and PGND pins must be connected together directly at the part.", 12 PGND (power) "Power ground. AGND and PGND pins must be connected together directly at the part.", 13 SW2 (in) "Adjustable buck power switch input.", 14 VIN (power) "Analog power input.", 15 VIN (power) "Analog power input.", 16 CB2 (in) "Adjustable buck converter bootstrap capacitor connection.", 17 ~{SHDN2} (in) "Shutdown pin for adjustable buck converter. Active low.", 18 SS2 (in) "Adjustable buck soft start pin.", 19 FSLCT (in) "Switching frequency select input.", 20 SS1 (in) "Fixed buck soft start pin.", 21 ~{SHDN1} (in) "Shutdown pin for fixed buck converter. Active low.", 22 CB1 (in) "Fixed buck converter bootstrap capacitor connection.", 23 VIN (power) "Analog power input.", 24 SW1 (in) "Fixed buck power switch input. Switch connected between VIN pins and SW1 pin."

## LM2717MT-ADJ
designator U?
Dual Step-Down DC/DC Converter; PartNumber: LM2717MT-ADJ; Manufacturer: National Semiconductor; CompType: Switcher; PackageTopMarking: NSUZXYTT*LM2717*MT-ADJ; Published: 4-Dec-2008; DatasheetVersion: Mar-2008; PackageVersion: revE, Mar-2003; PackageReference: MTC24; Publisher: Altium Limited; PackageDescription: Molded TSSOP, Jedec, 7.8 x 4.4 x 0.9mm Body, 24 Lead, 0.65mm Pitch; RoHS: Y; PinCount: 24; DigiKeyPartNumber: LM2717MT-ADJ-ND; Code_JEDEC: MO-153-AD; ComponentLink1Description: LM2717 Datasheet; ComponentLink1URL: http://www.national.com/ds/LM/LM2717.pdf; ComponentLink2Description: LM2717 Web Page; ComponentLink2URL: http://www.national.com/pf/LM/LM2717.html; ComponentLink3Description: MTC24 Package Drawing; ComponentLink3URL: http://www.national.com/packaging/folders/mtc24.html
footprint MTC24_N (TSOP, 24-Leads, Body 7.8x4.4mm, Pitch 0.65mm, IPC Medium Density)
footprint MTC24_L (TSOP, 24-Leads, Body 7.8x4.4mm, Pitch 0.65mm, IPC High Density)
footprint MTC24_M (TSOP, 24-Leads, Body 7.8x4.4mm, Pitch 0.65mm, IPC Low Density)
pins: 1 PGND (power) "Power ground. AGND and PGND pins must be connected together directly at the part.", 2 PGND (power) "Power ground. AGND and PGND pins must be connected together directly at the part.", 3 AGND (power) "Analog ground. AGND and PGND pins must be connected together directly at the part.", 4 FB1 (in) "Fixed buck output voltage feedback input.", 5 VC1 (in) "Fixed buck compensation network connection. Connected to the output of the voltage error amplifier.", 6 VBG (in) "Bandgap connection.", 7 VC2 (in) "Adjustable buck compensation network connection.", 8 FB2 (in) "Adjustable buck output voltage feedback input.", 9 AGND (power) "Analog ground. AGND and PGND pins must be connected together directly at the part.", 10 AGND (power) "Analog ground. AGND and PGND pins must be connected together directly at the part.", 11 PGND (power) "Power ground. AGND and PGND pins must be connected together directly at the part.", 12 PGND (power) "Power ground. AGND and PGND pins must be connected together directly at the part.", 13 SW2 (in) "Adjustable buck power switch input.", 14 VIN (power) "Analog power input.", 15 VIN (power) "Analog power input.", 16 CB2 (in) "Adjustable buck converter bootstrap capacitor connection.", 17 ~{SHDN2} (in) "Shutdown pin for adjustable buck converter. Active low.", 18 SS2 (in) "Adjustable buck soft start pin.", 19 FSLCT (in) "Switching frequency select input.", 20 SS1 (in) "Fixed buck soft start pin.", 21 ~{SHDN1} (in) "Shutdown pin for fixed buck converter. Active low.", 22 CB1 (in) "Fixed buck converter bootstrap capacitor connection.", 23 VIN (power) "Analog power input.", 24 SW1 (in) "Fixed buck power switch input. Switch connected between VIN pins and SW1 pin."

## LM2727MTC
designator U?
N-Channel FET Synchronous Buck Regulator Controller for Low Output Voltages; PartNumber: LM2727MTC; Manufacturer: National Semiconductor; CompType: Switcher; PackageTopMarking: NSZXYTT*2727*MTC; PowerWise: N; Published: 4-Dec-2008; DatasheetVersion: Jun-2003; PackageVersion: revD, Jun-2003; PackageReference: MTC14; Publisher: Altium Limited; PackageDescription: Molded TSSOP, JEDEC, 5 x 4.4 x 0.9mm Body, 14 Lead, 0.65mm Pitch; RoHS: Y; PinCount: 14; DigiKeyPartNumber: LM2727MTC-ND; Code_JEDEC: MO-153-AB-1; ComponentLink1Description: LM2727 Datasheet; ComponentLink1URL: http://www.national.com/ds/LM/LM2727.pdf; ComponentLink2Description: LM2727 Web Page; ComponentLink2URL: http://www.national.com/pf/LM/LM2727.html; ComponentLink3Description: MTC14 Package Page; ComponentLink3URL: http://www.national.com/packaging/folders/mtc14.html
footprint MTC14_N (TSOP, 14-Leads, Body 5x4.4mm, Pitch 0.65mm, IPC Medium Density)
footprint MTC14_L (TSOP, 14-Leads, Body 5x4.4mm, Pitch 0.65mm, IPC High Density)
footprint MTC14_M (TSOP, 14-Leads, Body 5x4.4mm, Pitch 0.65mm, IPC Low Density)
pins: 1 BOOT, 2 LG (out), 3 PGND (power), 4 SGND (power), 5 VCC (power), 6 PWGD (out), 7 ISEN (in), 8 EAO (out), 9 SS (in), 10 FB (in), 11 FREQ (in), 12 ~{SD} (in), 13 PGND (power), 14 HG (out)

## LM2731XMF
designator U?
0.6/1.6 MHz Boost Converters With 22V Internal FET Switch in SOT-23; PartNumber: LM2731XMF; Manufacturer: National Semiconductor; CompType: Switcher; PackageTopMarking: S51A*XTT; PowerWise: N; Published: 4-Dec-2008; DatasheetVersion: Jul-2007; PackageVersion: revD, Aug-2008; PackageReference: MF05A; Publisher: Altium Limited; PackageDescription: Molded SOT-23, .115 x .063 x .040 in Body, 5 Lead, .0375 in Pitch; RoHS: O; PinCount: 5; DigiKeyPartNumber: LM2731XMFCT-ND; Code_IPC: SOT23-5; ComponentLink1Description: LM2731 Datasheet; ComponentLink1URL: http://www.national.com/ds/LM/LM2731.pdf; ComponentLink2Description: LM2731 Web Page; ComponentLink2URL: http://www.national.com/pf/LM/LM2731.html; ComponentLink3Description: MF05A Package Page; ComponentLink3URL: http://www.national.com/packaging/folders/mf05a.html
footprint MF05A_N (SOT23, 5-Leads, Body 2.9x1.6mm, Pitch 0.95mm, Lead Span 2.8mm, IPC Medium Density)
footprint MF05A_L (SOT23, 5-Leads, Body 2.9x1.6mm, Pitch 0.95mm, Lead Span 2.8mm, IPC High Density)
footprint MF05A_M (SOT23, 5-Leads, Body 2.9x1.6mm, Pitch 0.95mm, Lead Span 2.8mm, IPC Low Density)
pins: 1 SW (power), 2 GND (power), 3 FB (in), 4 ~{SHDN} (in), 5 VIN (power)

## LM2731YMF
designator U?
0.6/1.6 MHz Boost Converters With 22V Internal FET Switch in SOT-23; PartNumber: LM2731YMF; Manufacturer: National Semiconductor; CompType: Switcher; PackageTopMarking: S51B*XTT; PowerWise: N; Published: 4-Dec-2008; DatasheetVersion: Jul-2007; PackageVersion: revD, Aug-2008; PackageReference: MF05A; Publisher: Altium Limited; PackageDescription: Molded SOT-23, .115 x .063 x .040 in Body, 5 Lead, .0375 in Pitch; RoHS: O; PinCount: 5; DigiKeyPartNumber: LM2731YMFCT-ND; Code_IPC: SOT23-5; ComponentLink1Description: LM2731 Datasheet; ComponentLink1URL: http://www.national.com/ds/LM/LM2731.pdf; ComponentLink2Description: LM2731 Web Page; ComponentLink2URL: http://www.national.com/pf/LM/LM2731.html; ComponentLink3Description: MF05A Package Page; ComponentLink3URL: http://www.national.com/packaging/folders/mf05a.html
footprint MF05A_N (SOT23, 5-Leads, Body 2.9x1.6mm, Pitch 0.95mm, Lead Span 2.8mm, IPC Medium Density)
footprint MF05A_L (SOT23, 5-Leads, Body 2.9x1.6mm, Pitch 0.95mm, Lead Span 2.8mm, IPC High Density)
footprint MF05A_M (SOT23, 5-Leads, Body 2.9x1.6mm, Pitch 0.95mm, Lead Span 2.8mm, IPC Low Density)
pins: 1 SW (power), 2 GND (power), 3 FB (in), 4 ~{SHDN} (in), 5 VIN (power)

## LM2733XMF
designator U?
0.6/1.6 MHz Boost Converters With 40V Internal FET Switch in SOT-23; PartNumber: LM2733XMF; Manufacturer: National Semiconductor; CompType: Switcher; PackageTopMarking: S52A*XTT; PowerWise: N; Published: 4-Dec-2008; DatasheetVersion: Jul-2007; PackageVersion: revD, Aug-2008; PackageReference: MF05A; Publisher: Altium Limited; PackageDescription: Molded SOT-23, .115 x .063 x .040 in Body, 5 Lead, .0375 in Pitch; RoHS: O; PinCount: 5; DigiKeyPartNumber: LM2733XMFCT-ND; Code_IPC: SOT23-5; ComponentLink1Description: LM2733 Datasheet; ComponentLink1URL: http://www.national.com/ds/LM/LM2733.pdf; ComponentLink2Description: LM2733 Web Page; ComponentLink2URL: http://www.national.com/pf/LM/LM2733.html; ComponentLink3Description: MF05A Package Page; ComponentLink3URL: http://www.national.com/packaging/folders/mf05a.html
footprint MF05A_N (SOT23, 5-Leads, Body 2.9x1.6mm, Pitch 0.95mm, Lead Span 2.8mm, IPC Medium Density)
footprint MF05A_L (SOT23, 5-Leads, Body 2.9x1.6mm, Pitch 0.95mm, Lead Span 2.8mm, IPC High Density)
footprint MF05A_M (SOT23, 5-Leads, Body 2.9x1.6mm, Pitch 0.95mm, Lead Span 2.8mm, IPC Low Density)
pins: 1 SW (power), 2 GND (power), 3 FB (in), 4 ~{SHDN} (in), 5 VIN (power)

## LM2733YMF
designator U?
0.6/1.6 MHz Boost Converters With 40V Internal FET Switch in SOT-23; PartNumber: LM2733YMF; Manufacturer: National Semiconductor; CompType: Switcher; PackageTopMarking: S52B*XTT; PowerWise: N; Published: 4-Dec-2008; DatasheetVersion: Jul-2007; PackageVersion: revD, Aug-2008; PackageReference: MF05A; Publisher: Altium Limited; PackageDescription: Molded SOT-23, .115 x .063 x .040 in Body, 5 Lead, .0375 in Pitch; RoHS: O; PinCount: 5; DigiKeyPartNumber: LM2733YMFCT-ND; Code_IPC: SOT23-5; ComponentLink1Description: LM2733 Datasheet; ComponentLink1URL: http://www.national.com/ds/LM/LM2733.pdf; ComponentLink2Description: LM2733 Web Page; ComponentLink2URL: http://www.national.com/pf/LM/LM2733.html; ComponentLink3Description: MF05A Package Page; ComponentLink3URL: http://www.national.com/packaging/folders/mf05a.html
footprint MF05A_N (SOT23, 5-Leads, Body 2.9x1.6mm, Pitch 0.95mm, Lead Span 2.8mm, IPC Medium Density)
footprint MF05A_L (SOT23, 5-Leads, Body 2.9x1.6mm, Pitch 0.95mm, Lead Span 2.8mm, IPC High Density)
footprint MF05A_M (SOT23, 5-Leads, Body 2.9x1.6mm, Pitch 0.95mm, Lead Span 2.8mm, IPC Low Density)
pins: 1 SW (power), 2 GND (power), 3 FB (in), 4 ~{SHDN} (in), 5 VIN (power)

## LM2734XMK
designator U?
Thin SOT23 1A Load Step-Down DC-DC Regulator; PartNumber: LM2734XMK; Manufacturer: National Semiconductor; CompType: Switcher; PackageTopMarking: SFDB*XTT; PowerWise: N; Published: 4-Dec-2008; DatasheetVersion: Jun-2008; PackageVersion: revD, Jul-2005; PackageReference: MK06A; Publisher: Altium Limited; PackageDescription: Molded TSOT, 2.97 x 1.65 x 0.87mm Body, 6 Lead, 0.95mm Pitch; RoHS: Y; PinCount: 6; DigiKeyPartNumber: LM2734XMKCT-ND; Code_JEDEC: MO-193-AA; Code_IPC: SOT26A-6; ComponentLink1Description: LM2734 Datasheet; ComponentLink1URL: http://www.national.com/ds/LM/LM2734.pdf; ComponentLink2Description: LM2734 Web Page; ComponentLink2URL: http://www.national.com/pf/LM/LM2734.html; ComponentLink3Description: MK06A Package Page; ComponentLink3URL: http://www.national.com/packaging/folders/mk06a.html
footprint MK06A_N (SOT23, 6-Leads, Body 3.0x1.7mm, Pitch 0.95mm, Lead Span 2.9mm, IPC Medium Density)
footprint MK06A_L (SOT23, 6-Leads, Body 3.0x1.7mm, Pitch 0.95mm, Lead Span 2.9mm, IPC High Density)
footprint MK06A_M (SOT23, 6-Leads, Body 3.0x1.7mm, Pitch 0.95mm, Lead Span 2.9mm, IPC Low Density)
pins: 1 BOOST, 2 GND (power), 3 FB (in), 4 EN (in), 5 VIN (power), 6 SW (power)

## LM2734YMK
designator U?
Thin SOT23 1A Load Step-Down DC-DC Regulator; PartNumber: LM2734YMK; Manufacturer: National Semiconductor; CompType: Switcher; PackageTopMarking: SFEB*XTT; PowerWise: N; Published: 4-Dec-2008; DatasheetVersion: Jun-2008; PackageVersion: revD, Jul-2005; PackageReference: MK06A; Publisher: Altium Limited; PackageDescription: Molded TSOT, 2.97 x 1.65 x 0.87mm Body, 6 Lead, 0.95mm Pitch; RoHS: O; PinCount: 6; DigiKeyPartNumber: LM2734YMKCT-ND; Code_JEDEC: MO-193-AA; Code_IPC: SOT26A-6; ComponentLink1Description: LM2734 Datasheet; ComponentLink1URL: http://www.national.com/ds/LM/LM2734.pdf; ComponentLink2Description: LM2734 Web Page; ComponentLink2URL: http://www.national.com/pf/LM/LM2734.html; ComponentLink3Description: MK06A Package Page; ComponentLink3URL: http://www.national.com/packaging/folders/mk06a.html
footprint MK06A_N (SOT23, 6-Leads, Body 3.0x1.7mm, Pitch 0.95mm, Lead Span 2.9mm, IPC Medium Density)
footprint MK06A_L (SOT23, 6-Leads, Body 3.0x1.7mm, Pitch 0.95mm, Lead Span 2.9mm, IPC High Density)
footprint MK06A_M (SOT23, 6-Leads, Body 3.0x1.7mm, Pitch 0.95mm, Lead Span 2.9mm, IPC Low Density)
pins: 1 BOOST, 2 GND (power), 3 FB (in), 4 EN (in), 5 VIN (power), 6 SW (power)

## LM2734ZMK
designator U?
Thin SOT23 1A Load Step-Down DC-DC Regulator; PartNumber: LM2734ZMK; Manufacturer: National Semiconductor; CompType: Switcher; PackageTopMarking: SFTB*XTT; PowerWise: N; Published: 4-Dec-2008; DatasheetVersion: Jun-2008; PackageVersion: revD, Jul-2005; PackageReference: MK06A; Publisher: Altium Limited; PackageDescription: Molded TSOT, 2.97 x 1.65 x 0.87mm Body, 6 Lead, 0.95mm Pitch; RoHS: Y; PinCount: 6; DigiKeyPartNumber: LM2734ZMKCT-ND; Code_JEDEC: MO-193-AA; Code_IPC: SOT26A-6; ComponentLink1Description: LM2734Z Datasheet; ComponentLink1URL: http://www.national.com/ds/LM/LM2734Z.pdf; ComponentLink2Description: LM2734Z Web Page; ComponentLink2URL: http://www.national.com/pf/LM/LM2734Z.html; ComponentLink3Description: MK06A Package Page; ComponentLink3URL: http://www.national.com/packaging/folders/mk06a.html
footprint MK06A_N (SOT23, 6-Leads, Body 3.0x1.7mm, Pitch 0.95mm, Lead Span 2.9mm, IPC Medium Density)
footprint MK06A_L (SOT23, 6-Leads, Body 3.0x1.7mm, Pitch 0.95mm, Lead Span 2.9mm, IPC High Density)
footprint MK06A_M (SOT23, 6-Leads, Body 3.0x1.7mm, Pitch 0.95mm, Lead Span 2.9mm, IPC Low Density)
pins: 1 BOOST, 2 GND (power), 3 FB (in), 4 EN (in), 5 VIN (power), 6 SW (power)